# Altium footprint library IRL530PBF.PcbLib: 3 footprints
Each footprint in its own frame and in the unit in brackets; x right, y up, seen from the top. Pads: shape width x height; smd on the part's side, far side on the other; paste and mask are expansions set on the pad; w line width, h text height; cw(c..) or ccw(c..) is an arc to the next point about the centre after c.
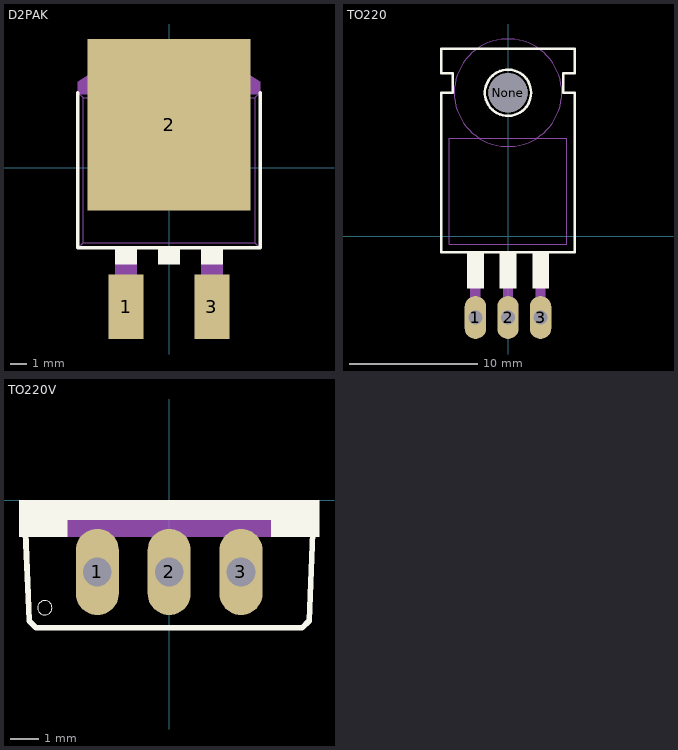
[diagram p0: the footprints below, top view; thin cyan lines are the x and y axes]

## D2PAK [mm]
pads (3):
  rect 2.08x3.81 smd: 1(-2.54,-8.255) 3(2.54,-8.255)
  rect 9.652x10.16 smd: 2(0,2.54)
Top Overlay:
  region: -0.636,-4.762 0.635,-4.762 0.635,-5.726 -0.636,-5.726
  region: 1.908,-4.763 3.175,-4.763 3.175,-5.725 1.908,-5.725
  region: -3.182,-4.763 -1.905,-4.763 -1.905,-5.727 -3.182,-5.727
  lines w0.203: -5.397,4.445 -5.397,-4.763 5.397,-4.763 5.397,4.445
Mechanical 1:
  region: -5.397,4.445 -5.397,5.08 -4.445,5.715 4.445,5.715 5.397,5.08 5.397,4.445
  region: 1.91,-5.715 3.175,-5.715 3.175,-7.642 1.91,-7.642
  region: -3.177,-5.715 -1.905,-5.715 -1.905,-7.625 -3.177,-7.625
  lines w0.051: -5.397,-4.763 -5.08,-4.445 ; -5.397,4.445 -5.08,4.127 ; 5.397,-4.763 5.08,-4.445 ; 5.397,4.445 5.08,4.127 ; -5.08,-4.445 5.08,-4.445 ; -5.08,-4.445 -5.08,4.127 ; -5.08,4.127 5.08,4.127 ; 5.08,-4.445 5.08,4.127
  lines w0.203: -5.397,4.445 5.397,4.445
  text "2" at -0.318,1.978 h1.88
  text "3" at 2.227,-4.068 h1.88
  text "1" at -2.861,-4.065 h1.88

## TO220 [mil]
pads (4):
  oval 66x132 hole 44: 1(-100,-250) 2(0,-250) 3(100,-250)
  round 120 hole 120 unplated: None(0,440)
Top Overlay:
  circle w8: c0,440 r71
  region: 75.22,-50 125,-50 125,-160.48 75.22,-160.48
  region: -25.06,-50 25,-50 25,-160.38 -25.06,-160.38
  region: -125.27,-50 -75,-50 -75,-160.34 -125.27,-160.34
  lines w8: -205,-50 -205,440 -170,440 -170,500 -205,500 -205,575 205,575 205,500 170,500 170,440 205,440 205,-50 -205,-50
Mechanical 1:
  circle w0: c0,440 r165
  circle w0: c0,440 r165
  region: 85.19,-185 115,-185 115,-260.57 85.19,-260.57
  region: -15.04,-185 15,-185 15,-260.63 -15.04,-260.63
  region: -115.42,-185 -85,-185 -85,-260.94 -115.42,-260.94
  region: -115.17,-160 -85,-160 -85,-185.27 -115.17,-185.27
  region: -15.03,-160 15,-160 15,-185.33 -15.03,-185.33
  region: 85.13,-160 115,-160 115,-185.27 85.13,-185.27
  lines w2: -180,-25 -180,300 180,300 180,-25 -180,-25
  text "3" at 75.08,-9.84 h73.82
  text "2" at -25.06,-9.84 h73.82
  text "1" at -125.3,-9.84 h73.82

## TO220V [mil]
pads (3):
  oval 60x120 hole 40: 1(-100,-100) 2(0,-100) 3(100,-100)
Top Overlay:
  circle w0: c-173.06,-149.94 r10
  region: 142.07,-27.56 208.66,-27.56 208.66,-51.3 142.07,-51.3
  region: -209.03,-27.56 -141.73,-27.56 -141.73,-51.27 -209.03,-51.27
  region: -209.12,0 208.66,0 208.66,-27.62 -209.12,-27.62
  lines w8: -200,-45 -195,-167.87 -185,-177.87 185,-177.87 195,-167.87 200,-45
Mechanical 1:
  region: -142.02,-27.56 141.73,-27.56 141.73,-51.28 -142.02,-51.28
  text "3" at 75.2,-135.18 h73.82
  text "2" at -25.08,-135.25 h73.82
  text "1" at -125.27,-135.11 h73.82